# EAGLE library part TS5A2066 (library 1)
DUAL-CHANNEL 10-Ω SPST ANALOG SWITCH
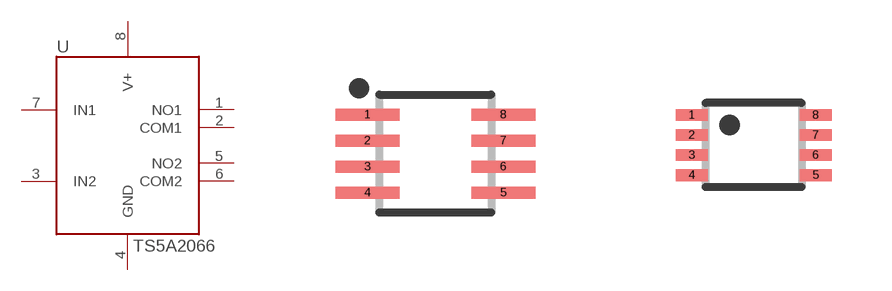
[diagram p49: symbol with the pads of SSOP-8; footprints SSOP-8, VSSOP-8]

Designator prefix U

## TS5A2066DCT  [SSOP-8]
1  NO1
2  COM1
3  IN2
4  GND
5  NO2
6  COM2
7  IN1
8  V+

## TS5A2066DCU  [VSSOP-8]
Pads as for SSOP-8

## Footprint SSOP-8 (pad centres in mm)
0.65mm pitch, SSOP-8 TI DCT Outline <http://www.ti.com/litv/pdf/mpds049b>
smd 1.6 x 0.3: 1 -1.7,0.975; 2 -1.7,0.325; 3 -1.7,-0.325; 4 -1.7,-0.975; 5 1.7,-0.975; 6 1.7,-0.325; 7 1.7,0.325; 8 1.7,0.975

## Footprint VSSOP-8 (pad centres in mm)
smd 0.8 x 0.3: 1 -1.55,0.75; 2 -1.55,0.25; 3 -1.55,-0.25; 4 -1.55,-0.75; 5 1.55,-0.75; 6 1.55,-0.25; 7 1.55,0.25; 8 1.55,0.75